# EAGLE library part POGO_0911 (library conn)
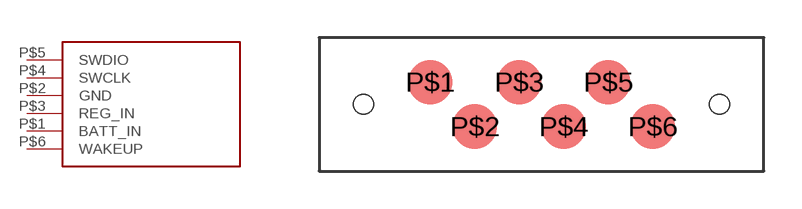
[diagram p1: symbol with the pads of POGO_0911; footprint POGO_0911]

Designator prefix -

## POGO_0911  [POGO_0911]
P$1  BATT_IN
P$2  GND
P$3  REG_IN
P$4  SWCLK
P$5  SWDIO
P$6  WAKEUP

## Footprint POGO_0911 (pad centres in mm)
smd 1.778 x 1.778: P$1 0,0; P$2 1.778,-1.778; P$3 3.556,0; P$4 5.334,-1.778; P$5 7.112,0; P$6 8.89,-1.778
hole 0.795 at -2.667,-0.889
hole 0.795 at 11.557,-0.889